# Altium schematic symbol library SCH - INTERFACE - CAN - ANALOG LT1796.SCHLIB: 1 symbol
Pins are listed as number, name and electrical type; pins without a type are passive.

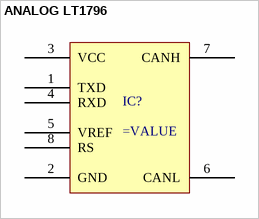
[diagram p0: symbol ANALOG LT1796]

## ANALOG LT1796
designator IC?
pins: 1 TXD, 2 GND, 3 VCC, 4 RXD, 5 VREF, 6 CANL, 7 CANH, 8 RS